# EAGLE library part NXW-12 (library con-ninigi)
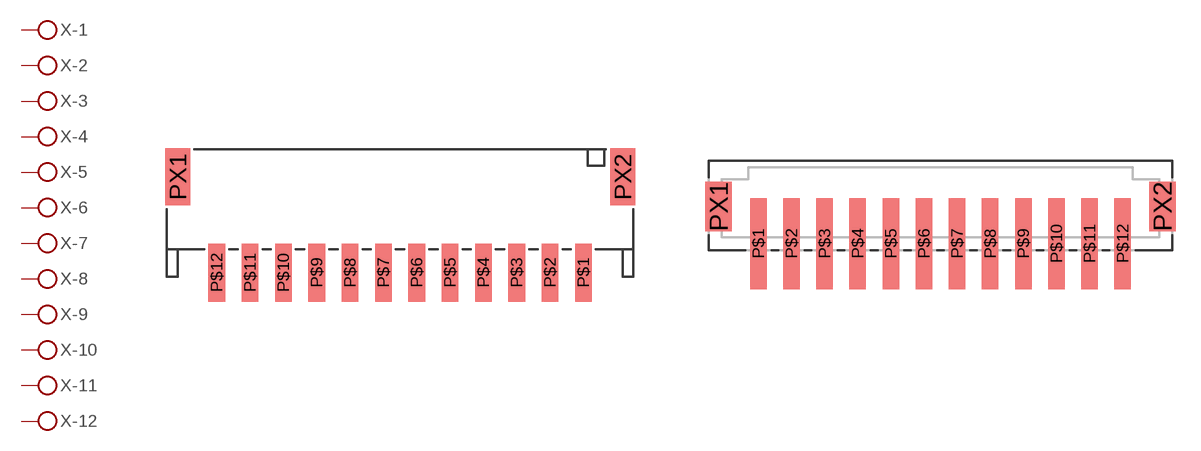
[diagram p5: symbol with the pads of NXW-12SMDK; footprints NXW-12SMDK, NXW-12SMD]

Designator prefix X; gates -1=PIN -2=PIN -3=PIN -4=PIN -5=PIN -6=PIN -7=PIN -8=PIN -9=PIN -10=PIN -11=PIN -12=PIN

## NXW-12SMDK  [NXW-12SMDK]
P$1  -1:P$1
P$2  -2:P$1
P$3  -3:P$1
P$4  -4:P$1
P$5  -5:P$1
P$6  -6:P$1
P$7  -7:P$1
P$8  -8:P$1
P$9  -9:P$1
P$10  -10:P$1
P$11  -11:P$1
P$12  -12:P$1

## NXW-12SMD  [NXW-12SMD]
Pads as for NXW-12SMDK

## Footprint NXW-12SMDK (pad centres in mm)
smd 1 x 3.5: P$1 11,0; P$2 9,0; P$3 7,0; P$4 5,0; P$5 3,0; P$6 1,0; P$7 -1,0; P$8 -3,0; P$9 -5,0; P$10 -7,0; P$11 -9,0; P$12 -11,0
smd 1.5 x 3.4: PX1 -13.35,5.75; PX2 13.35,5.75

## Footprint NXW-12SMD (pad centres in mm)
smd 1 x 5.5: P$1 -11,0; P$2 -9,0; P$3 -7,0; P$4 -5,0; P$5 -3,0; P$6 -1,0; P$7 1,0; P$8 3,0; P$9 5,0; P$10 7,0; P$11 9,0; P$12 11,0
smd 1.6 x 3: PX1 -13.4,2.25; PX2 13.4,2.25